# EAGLE library part STM-STM32F730 (library EagleLibrary)
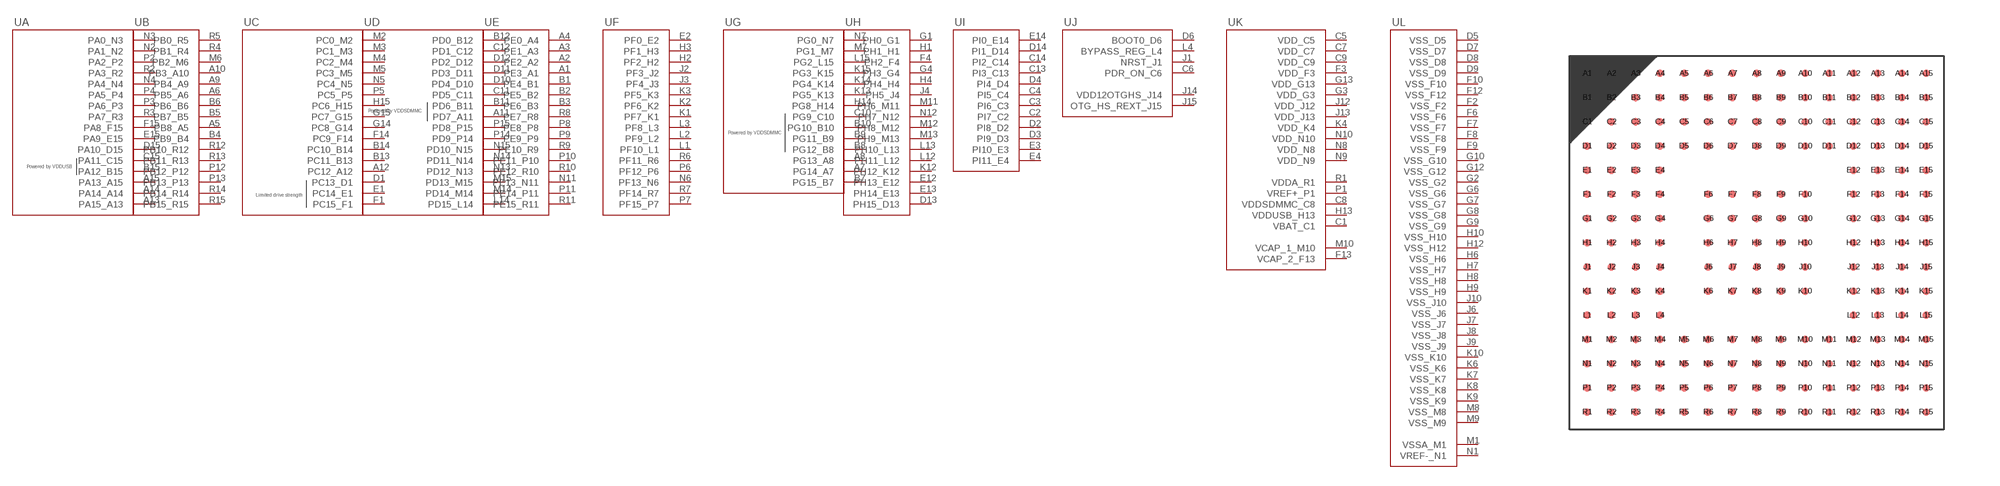
[diagram p39: symbol with the pads of STM-STM32F730I8; footprint STM-STM32F730I8]

Designator prefix U; gates A=STM-STM32F730I8-A B=STM-STM32F730I8-B C=STM-STM32F730I8-C D=STM-STM32F730I8-D E=STM-STM32F730I8-E F=STM-STM32F730I8-F G=STM-STM32F730I8-G H=STM-STM32F730I8-H I=STM-STM32F730I8-I J=STM-STM32F730I8-J K=STM-STM32F730I8-K L=STM-STM32F730I8-L

## STM-STM32F730 (MFG: STMicroelectronics; PN: STM32F730I8)  [STM-STM32F730I8]
A1  E:PE3_A1
A2  E:PE2_A2
A3  E:PE1_A3
A4  E:PE0_A4
A5  B:PB8_A5
A6  B:PB5_A6
A7  G:PG14_A7
A8  G:PG13_A8
A9  B:PB4_A9
A10  B:PB3_A10
A11  D:PD7_A11
A12  C:PC12_A12
A13  A:PA15_A13
A14  A:PA14_A14
A15  A:PA13_A15
B1  E:PE4_B1
B2  E:PE5_B2
B3  E:PE6_B3
B4  B:PB9_B4
B5  B:PB7_B5
B6  B:PB6_B6
B7  G:PG15_B7
B8  G:PG12_B8
B9  G:PG11_B9
B10  G:PG10_B10
B11  D:PD6_B11
B12  D:PD0_B12
B13  C:PC11_B13
B14  C:PC10_B14
B15  A:PA12_B15
C1  K:VBAT_C1
C2  I:PI7_C2
C3  I:PI6_C3
C4  I:PI5_C4
C5  K:VDD_C5
C6  J:PDR_ON_C6
C7  K:VDD_C7
C8  K:VDDSDMMC_C8
C9  K:VDD_C9
C10  G:PG9_C10
C11  D:PD5_C11
C12  D:PD1_C12
C13  I:PI3_C13
C14  I:PI2_C14
C15  A:PA11_C15
D1  C:PC13_D1
D2  I:PI8_D2
D3  I:PI9_D3
D4  I:PI4_D4
D5  L:VSS_D5
D6  J:BOOT0_D6
D7  L:VSS_D7
D8  L:VSS_D8
D9  L:VSS_D9
D10  D:PD4_D10
D11  D:PD3_D11
D12  D:PD2_D12
D13  H:PH15_D13
D14  I:PI1_D14
D15  A:PA10_D15
E1  C:PC14_E1
E2  F:PF0_E2
E3  I:PI10_E3
E4  I:PI11_E4
E12  H:PH13_E12
E13  H:PH14_E13
E14  I:PI0_E14
E15  A:PA9_E15
F1  C:PC15_F1
F2  L:VSS_F2
F3  K:VDD_F3
F4  H:PH2_F4
F6  L:VSS_F6
F7  L:VSS_F7
F8  L:VSS_F8
F9  L:VSS_F9
F10  L:VSS_F10
F12  L:VSS_F12
F13  K:VCAP_2_F13
F14  C:PC9_F14
F15  A:PA8_F15
G1  H:PH0_G1
G2  L:VSS_G2
G3  K:VDD_G3
G4  H:PH3_G4
G6  L:VSS_G6
G7  L:VSS_G7
G8  L:VSS_G8
G9  L:VSS_G9
G10  L:VSS_G10
G12  L:VSS_G12
G13  K:VDD_G13
G14  C:PC8_G14
G15  C:PC7_G15
H1  H:PH1_H1
H2  F:PF2_H2
H3  F:PF1_H3
H4  H:PH4_H4
H6  L:VSS_H6
H7  L:VSS_H7
H8  L:VSS_H8
H9  L:VSS_H9
H10  L:VSS_H10
H12  L:VSS_H12
H13  K:VDDUSB_H13
H14  G:PG8_H14
H15  C:PC6_H15
J1  J:NRST_J1
J2  F:PF3_J2
J3  F:PF4_J3
J4  H:PH5_J4
J6  L:VSS_J6
J7  L:VSS_J7
J8  L:VSS_J8
J9  L:VSS_J9
J10  L:VSS_J10
J12  K:VDD_J12
J13  K:VDD_J13
J14  J:VDD12OTGHS_J14
J15  J:OTG_HS_REXT_J15
K1  F:PF7_K1
K2  F:PF6_K2
K3  F:PF5_K3
K4  K:VDD_K4
K6  L:VSS_K6
K7  L:VSS_K7
K8  L:VSS_K8
K9  L:VSS_K9
K10  L:VSS_K10
K12  H:PH12_K12
K13  G:PG5_K13
K14  G:PG4_K14
K15  G:PG3_K15
L1  F:PF10_L1
L2  F:PF9_L2
L3  F:PF8_L3
L4  J:BYPASS_REG_L4
L12  H:PH11_L12
L13  H:PH10_L13
L14  D:PD15_L14
L15  G:PG2_L15
M1  L:VSSA_M1
M2  C:PC0_M2
M3  C:PC1_M3
M4  C:PC2_M4
M5  C:PC3_M5
M6  B:PB2_M6
M7  G:PG1_M7
M8  L:VSS_M8
M9  L:VSS_M9
M10  K:VCAP_1_M10
M11  H:PH6_M11
M12  H:PH8_M12
M13  H:PH9_M13
M14  D:PD14_M14
M15  D:PD13_M15
N1  L:VREF-_N1
N2  A:PA1_N2
N3  A:PA0_N3
N4  A:PA4_N4
N5  C:PC4_N5
N6  F:PF13_N6
N7  G:PG0_N7
N8  K:VDD_N8
N9  K:VDD_N9
N10  K:VDD_N10
N11  E:PE13_N11
N12  H:PH7_N12
N13  D:PD12_N13
N14  D:PD11_N14
N15  D:PD10_N15
P1  K:VREF+_P1
P2  A:PA2_P2
P3  A:PA6_P3
P4  A:PA5_P4
P5  C:PC5_P5
P6  F:PF12_P6
P7  F:PF15_P7
P8  E:PE8_P8
P9  E:PE9_P9
P10  E:PE11_P10
P11  E:PE14_P11
P12  B:PB12_P12
P13  B:PB13_P13
P14  D:PD9_P14
P15  D:PD8_P15
R1  K:VDDA_R1
R2  A:PA3_R2
R3  A:PA7_R3
R4  B:PB1_R4
R5  B:PB0_R5
R6  F:PF11_R6
R7  F:PF14_R7
R8  E:PE7_R8
R9  E:PE10_R9
R10  E:PE12_R10
R11  E:PE15_R11
R12  B:PB10_R12
R13  B:PB11_R13
R14  B:PB14_R14
R15  B:PB15_R15

## Footprint STM-STM32F730I8 (pad centres in mm)
225-BGA, collapsing, 0.65 mm pitch, 10.00 X 10.00 X 0.60 mm body 225-pin collapsing BGA package with 0.65 mm col pitch and 0.65 mm row pitch with body size 10.00 X 10.00 X 0.60 mm
smd 0.2 x 0.2: A1 -4.55,4.55; A2 -3.9,4.55; A3 -3.25,4.55; A4 -2.6,4.55; A5 -1.95,4.55; A6 -1.3,4.55; A7 -0.65,4.55; A8 0,4.55; A9 0.65,4.55; A10 1.3,4.55; A11 1.95,4.55; A12 2.6,4.55; A13 3.25,4.55; A14 3.9,4.55; A15 4.55,4.55; B1 -4.55,3.9; B2 -3.9,3.9; B3 -3.25,3.9; B4 -2.6,3.9; B5 -1.95,3.9; B6 -1.3,3.9; B7 -0.65,3.9; B8 0,3.9; B9 0.65,3.9; B10 1.3,3.9; B11 1.95,3.9; B12 2.6,3.9; B13 3.25,3.9; B14 3.9,3.9; B15 4.55,3.9; C1 -4.55,3.25; C2 -3.9,3.25; C3 -3.25,3.25; C4 -2.6,3.25; C5 -1.95,3.25; C6 -1.3,3.25; C7 -0.65,3.25; C8 0,3.25; C9 0.65,3.25; C10 1.3,3.25; C11 1.95,3.25; C12 2.6,3.25; C13 3.25,3.25; C14 3.9,3.25; C15 4.55,3.25; D1 -4.55,2.6; D2 -3.9,2.6; D3 -3.25,2.6; D4 -2.6,2.6; D5 -1.95,2.6; D6 -1.3,2.6; D7 -0.65,2.6; D8 0,2.6; D9 0.65,2.6; D10 1.3,2.6; D11 1.95,2.6; D12 2.6,2.6; D13 3.25,2.6; D14 3.9,2.6; D15 4.55,2.6; E1 -4.55,1.95; E2 -3.9,1.95; E3 -3.25,1.95; E4 -2.6,1.95; E12 2.6,1.95; E13 3.25,1.95; E14 3.9,1.95; E15 4.55,1.95; F1 -4.55,1.3; F2 -3.9,1.3; F3 -3.25,1.3; F4 -2.6,1.3; F6 -1.3,1.3; F7 -0.65,1.3; F8 0,1.3; F9 0.65,1.3; F10 1.3,1.3; F12 2.6,1.3; F13 3.25,1.3; F14 3.9,1.3; F15 4.55,1.3; G1 -4.55,0.65; G2 -3.9,0.65; G3 -3.25,0.65; G4 -2.6,0.65; G6 -1.3,0.65; G7 -0.65,0.65; G8 0,0.65; G9 0.65,0.65; G10 1.3,0.65; G12 2.6,0.65; G13 3.25,0.65; G14 3.9,0.65; G15 4.55,0.65; H1 -4.55,0; H2 -3.9,0; H3 -3.25,0; H4 -2.6,0; H6 -1.3,0; H7 -0.65,0; H8 0,0; H9 0.65,0; H10 1.3,0; H12 2.6,0; H13 3.25,0; H14 3.9,0; H15 4.55,0; J1 -4.55,-0.65; J2 -3.9,-0.65; J3 -3.25,-0.65; J4 -2.6,-0.65; J6 -1.3,-0.65; J7 -0.65,-0.65; J8 0,-0.65; J9 0.65,-0.65; J10 1.3,-0.65; J12 2.6,-0.65; J13 3.25,-0.65; J14 3.9,-0.65; J15 4.55,-0.65; K1 -4.55,-1.3; K2 -3.9,-1.3; K3 -3.25,-1.3; K4 -2.6,-1.3; K6 -1.3,-1.3; K7 -0.65,-1.3; K8 0,-1.3; K9 0.65,-1.3; K10 1.3,-1.3; K12 2.6,-1.3; K13 3.25,-1.3; K14 3.9,-1.3; K15 4.55,-1.3; L1 -4.55,-1.95; L2 -3.9,-1.95; L3 -3.25,-1.95; L4 -2.6,-1.95; L12 2.6,-1.95; L13 3.25,-1.95; L14 3.9,-1.95; L15 4.55,-1.95; M1 -4.55,-2.6; M2 -3.9,-2.6; M3 -3.25,-2.6; M4 -2.6,-2.6; M5 -1.95,-2.6; M6 -1.3,-2.6; M7 -0.65,-2.6; M8 0,-2.6; M9 0.65,-2.6; M10 1.3,-2.6; M11 1.95,-2.6; M12 2.6,-2.6; M13 3.25,-2.6; M14 3.9,-2.6; M15 4.55,-2.6; N1 -4.55,-3.25; N2 -3.9,-3.25; N3 -3.25,-3.25; N4 -2.6,-3.25; N5 -1.95,-3.25; N6 -1.3,-3.25; N7 -0.65,-3.25; N8 0,-3.25; N9 0.65,-3.25; N10 1.3,-3.25; N11 1.95,-3.25; N12 2.6,-3.25; N13 3.25,-3.25; N14 3.9,-3.25; N15 4.55,-3.25; P1 -4.55,-3.9; P2 -3.9,-3.9; P3 -3.25,-3.9; P4 -2.6,-3.9; P5 -1.95,-3.9; P6 -1.3,-3.9; P7 -0.65,-3.9; P8 0,-3.9; P9 0.65,-3.9; P10 1.3,-3.9; P11 1.95,-3.9; P12 2.6,-3.9; P13 3.25,-3.9; P14 3.9,-3.9; P15 4.55,-3.9; R1 -4.55,-4.55; R2 -3.9,-4.55; R3 -3.25,-4.55; R4 -2.6,-4.55; R5 -1.95,-4.55; R6 -1.3,-4.55; R7 -0.65,-4.55; R8 0,-4.55; R9 0.65,-4.55; R10 1.3,-4.55; R11 1.95,-4.55; R12 2.6,-4.55; R13 3.25,-4.55; R14 3.9,-4.55; R15 4.55,-4.55